# Altium schematic symbol library pth-switch.SchLib: 4 symbols
Pins are listed as number, name and electrical type; pins without a type are passive.

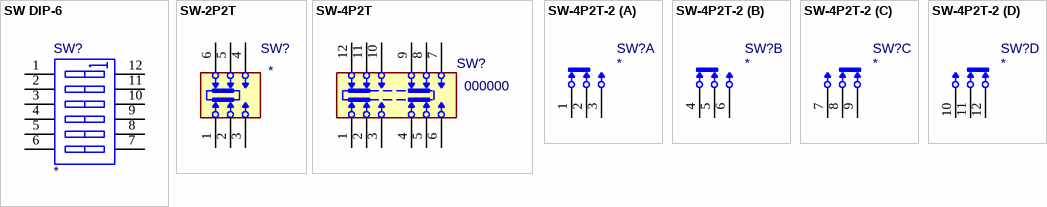
[diagram p0: symbols SW DIP-6 to SW-4P2T-2]

## SW DIP-6
designator SW?
DIP Switch, 6 Position, SPST; PN: *; Value: *; ExtraInfo: *
footprint DIP-SW-6P (DIP Switch; 6 Poles)
pins: 1 A1, 2 A2, 3 A3, 4 A4, 5 A5, 6 A6, 7 B6, 8 B5, 9 B4, 10 B3, 11 B2, 12 B1

## SW-2P2T
designator SW?
Slide Switch - 2 Poles 2 Positions; Value: *; PN: *; ExtraInfo: *
footprint SW-4P2T-7x15x4.7 (Slide Switch, 4 Poles, 2 Positions)
pins: 1, 2, 3, 4, 5, 6

## SW-4P2T
designator SW?, comment 000000
Slide Switch - 4 Poles 2 Positions; PN: 000000; Value: *; ExtraInfo: *
footprint SW-4P2T-7x15x4.7 (Slide Switch, 4 Poles, 2 Positions)
pins: 1, 2, 3, 4, 5, 6, 7, 8, 9, 10, 11, 12

## SW-4P2T-2
designator SW?
Slide Switch - 4 Poles 2 Positions; PN: *; Value: *; ExtraInfo: *
footprint SW-4P2T-7x15x4.7 (Slide Switch, 4 Poles, 2 Positions)
part A pins: 1, 2, 3
part B pins: 4, 5, 6
part C pins: 7, 8, 9
part D pins: 10, 11, 12